# EAGLE library part FT240X (library infnoise)
USB to FIFO interface chip
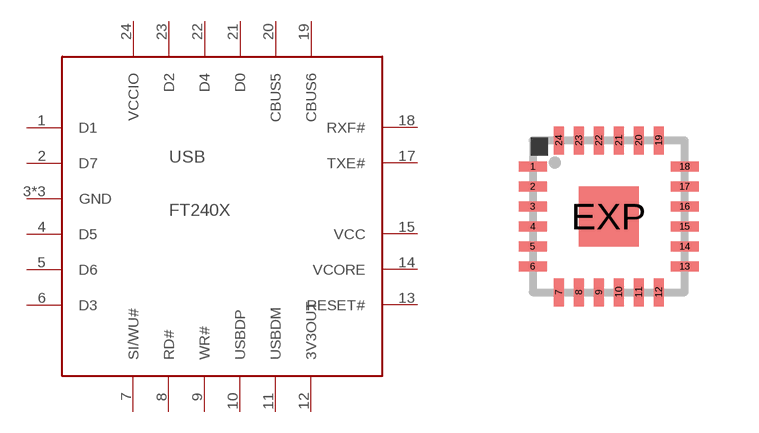
[diagram p0: symbol with the pads of QFN24-4X4; footprint QFN24-4X4]

Designator prefix USB

## FT240XQ  [QFN24-4X4]
1  D1
2  D7
3  GND
4  D5
5  D6
6  D3
7  SI/WU#
8  RD#
9  WR#
10  USBDP
11  USBDM
12  3V3OUT
13  RESET#
14  VCORE
15  VCC
16  GND
17  TXE#
18  RXF#
19  CBUS6
20  CBUS5
21  D0
22  D4
23  D2
24  VCCIO
EXP  GND

## Footprint QFN24-4X4 (pad centres in mm)
UF Package 24-Lead (4mm × 4mm) Plastic QFN Source: http://cds.linear.com/docs/Datasheet/5598f.pdf
smd 0.7 x 0.25: 1 -1.9,1.25; 2 -1.9,0.75; 3 -1.9,0.25; 4 -1.9,-0.25; 5 -1.9,-0.75; 6 -1.9,-1.25; 13 1.9,-1.25; 14 1.9,-0.75; 15 1.9,-0.25; 16 1.9,0.25; 17 1.9,0.75; 18 1.9,1.25
smd 0.25 x 0.7: 7 -1.25,-1.9; 8 -0.75,-1.9; 9 -0.25,-1.9; 10 0.25,-1.9; 11 0.75,-1.9; 12 1.25,-1.9; 19 1.25,1.9; 20 0.75,1.9; 21 0.25,1.9; 22 -0.25,1.9; 23 -0.75,1.9; 24 -1.25,1.9
smd 1.5 x 1.5: EXP 0,0